# EAGLE library part TPS61046YFFR (library Eric Navarrete Custom Parts Feb 2019)
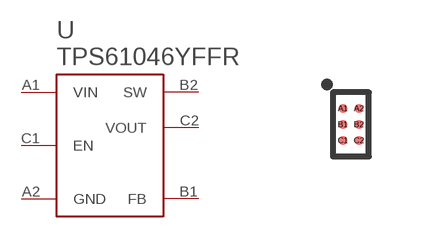
[diagram p4: symbol with the pads of DSBGA(6); footprint DSBGA(6)]

Designator prefix -

## TPS61046YFFR  [DSBGA(6)]
A1  VIN
A2  GND
B1  FB
B2  SW
C1  EN
C2  VOUT

## Footprint DSBGA(6) (pad centres in mm)
smd 0.23 x 0.23: A1 -0.2,0.4; A2 0.2,0.4; B1 -0.2,0; B2 0.2,0; C1 -0.2,-0.4; C2 0.2,-0.4